# Altium schematic symbol library connector_lib.SchLib: 2 symbols
Pins are listed as number, name and electrical type; pins without a type are passive.

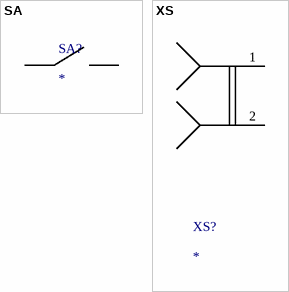
[diagram p0: symbols SA to XS]

## SA
designator SA?
pins: 0, 1

## XS
designator XS?
pins: 1, 2